# EAGLE library part TL2230 (library ld-components)
E-Switch TL2230 sub miniature pushbutton switch, DPDT
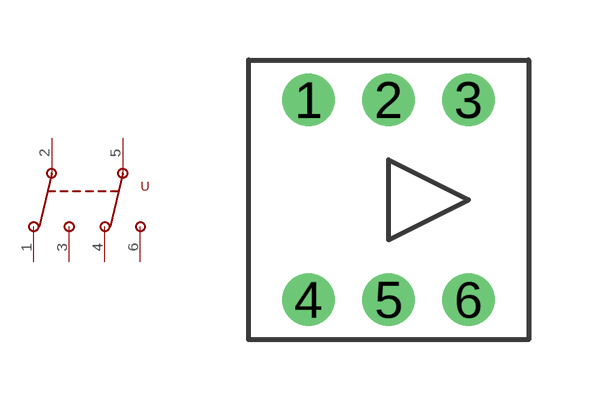
[diagram p9: symbol with the pads of TL2230; footprint TL2230]

Designator prefix -

## TL2230  [TL2230]
1  P1
2  P2
3  P3
4  P4
5  P5
6  P6

## Footprint TL2230 (pad centres in mm)
drill 0.8: 1 -2,2.5; 2 0,2.5; 3 2,2.5; 4 -2,-2.5; 5 0,-2.5; 6 2,-2.5